# Altium schematic symbol library Bluetechnix_Footprint_CM-BF537E.SchLib: 1 symbol
Pins are listed as number, name and electrical type; pins without a type are passive.

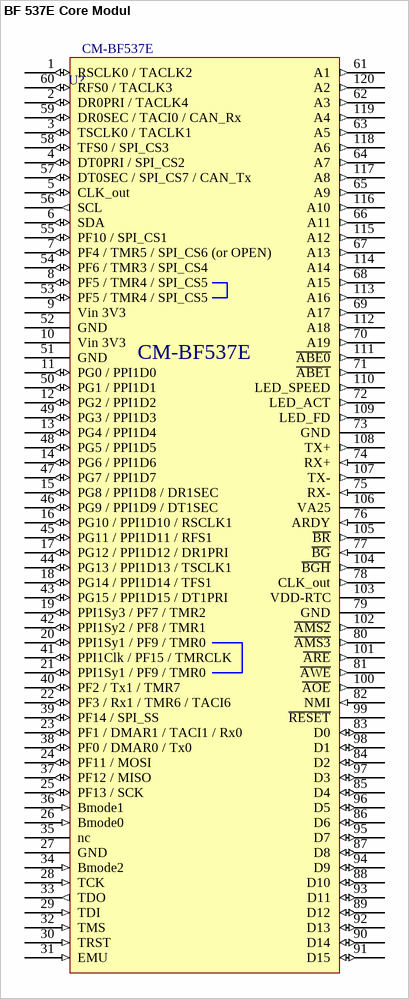
[diagram p0: symbol BF 537E Core Modul]

## BF 537E Core Modul
designator U?, comment CM-BF537E
DSP Balckfin 537
pins: 1 RSCLK0 / TACLK2 (io), 2 DR0PRI / TACLK4 (io), 3 TSCLK0 / TACLK1 (io), 4 DT0PRI / SPI_CS2 (io), 5 CLK_out (io), 6 SDA (io), 7 PF4 / TMR5 / SPI_CS6 (or OPEN) (io), 8 PF5 / TMR4 / SPI_CS5 (io), 9 Vin 3V3 (power), 10 Vin 3V3 (power), 11 PG0 / PPI1D0 (io), 12 PG2 / PPI1D2 (io), 13 PG4 / PPI1D4 (io), 14 PG6 / PPI1D6 (io), 15 PG8 / PPI1D8 / DR1SEC (io), 16 PG10 / PPI1D10 / RSCLK1 (io), 17 PG12 / PPI1D12 / DR1PRI (io), 18 PG14 / PPI1D14 / TFS1 (io), 19 PPI1Sy3 / PF7 / TMR2 (io), 20 PPI1Sy1 / PF9 / TMR0 (io), 21 PPI1Sy1 / PF9 / TMR0 (io), 22 PF3 / Rx1 / TMR6 / TACI6 (io), 23 PF1 / DMAR1 / TACI1 / Rx0 (io), 24 PF11 / MOSI (io), 25 PF13 / SCK (io), 26 Bmode0 (in), 27 GND (power), 28 TCK (in), 29 TDI (in), 30 TRST (in), 31 EMU (in), 32 TMS (in), 33 TDO (out), 34 Bmode2 (in), 35 nc (power), 36 Bmode1 (in), 37 PF12 / MISO (io), 38 PF0 / DMAR0 / Tx0 (io), 39 PF14 / SPI_SS (io), 40 PF2 / Tx1 / TMR7 (io), 41 PPI1Clk / PF15 / TMRCLK (io), 42 PPI1Sy2 / PF8 / TMR1 (io), 43 PG15 / PPI1D15 / DT1PRI (io), 44 PG13 / PPI1D13 / TSCLK1 (io), 45 PG11 / PPI1D11 / RFS1 (io), 46 PG9 / PPI1D9 / DT1SEC (io), 47 PG7 / PPI1D7 (io), 48 PG5 / PPI1D5 (io), 49 PG3 / PPI1D3 (io), 50 PG1 / PPI1D1 (io), 51 GND (power), 52 GND (power), 53 PF5 / TMR4 / SPI_CS5 (io), 54 PF6 / TMR3 / SPI_CS4 (io), 55 PF10 / SPI_CS1 (io), 56 SCL (out), 57 DT0SEC / SPI_CS7 / CAN_Tx (io), 58 TFS0 / SPI_CS3 (io), 59 DR0SEC / TACI0 / CAN_Rx (io), 60 RFS0 / TACLK3 (io), 61 A1 (out), 62 A3 (out), 63 A5 (out), 64 A7 (out), 65 A9 (out), 66 A11 (out), 67 A13 (out), 68 A15 (out), 69 A17 (out), 70 A19 (out), 71 ~{ABE1} (out), 72 LED_ACT (out), 73 GND (power), 74 RX+ (in), 75 RX- (in), 76 ARDY (in), 77 ~{BG} (in), 78 CLK_out (out), 79 GND (power), 80 ~{AMS3} (out), 81 ~{AWE} (out), 82 NMI (in), 83 D0 (io), 84 D2 (io), 85 D4 (io), 86 D6 (io), 87 D8 (io), 88 D10 (io), 89 D12 (io), 90 D14 (io), 91 D15 (io), 92 D13 (io), 93 D11 (io), 94 D9 (io), 95 D7 (io), 96 D5 (io), 97 D3 (io), 98 D1 (io), 99 ~{RESET}, 100 ~{AOE} (out), 101 ~{ARE} (out), 102 ~{AMS2} (out), 103 VDD-RTC (power), 104 ~{BGH} (out), 105 ~{BR} (out), 106 VA25 (power), 107 TX- (out), 108 TX+ (out), 109 LED_FD (out), 110 LED_SPEED (out), 111 ~{ABE0} (out), 112 A18 (out), 113 A16 (out), 114 A14 (out), 115 A12 (out), 116 A10 (out), 117 A8 (out), 118 A6 (out), 119 A4 (out), 120 A2 (out)